# EAGLE library part ATSAMD21_WLCSP45 (library maholli)
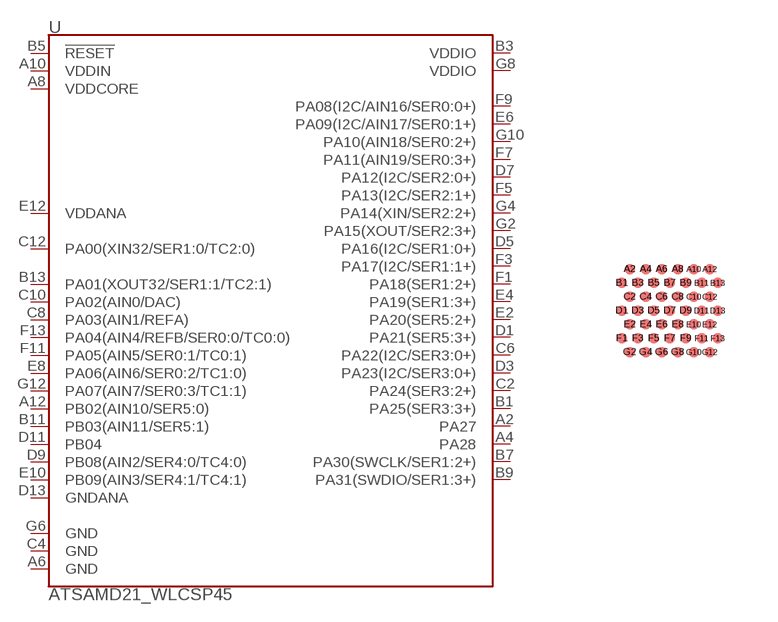
[diagram p18: symbol with the pads of 45-WLCSP; footprint 45-WLCSP]

Designator prefix U

## ATSAMD21_WLCSP45  [45-WLCSP]
A2  PA27
A4  PA28
A6  GND
A8  VDDCORE
A10  VDDIN
A12  PB02(AIN10/SER5:0)
B1  PA25(SER3:3+)
B3  VDDIO
B5  !RESET!
B7  PA30(SWCLK/SER1:2+)
B9  PA31(SWDIO/SER1:3+)
B11  PB03(AIN11/SER5:1)
B13  PA01(XOUT32/SER1:1/TC2:1)
C2  PA24(SER3:2+)
C4  GND
C6  PA22(I2C/SER3:0+)
C8  PA03(AIN1/REFA)
C10  PA02(AIN0/DAC)
C12  PA00(XIN32/SER1:0/TC2:0)
D1  PA21(SER5:3+)
D3  PA23(I2C/SER3:0+)
D5  PA16(I2C/SER1:0+)
D7  PA12(I2C/SER2:0+)
D9  PB08(AIN2/SER4:0/TC4:0)
D11  PB04
D13  GNDANA
E2  PA20(SER5:2+)
E4  PA19(SER1:3+)
E6  PA09(I2C/AIN17/SER0:1+)
E8  PA06(AIN6/SER0:2/TC1:0)
E10  PB09(AIN3/SER4:1/TC4:1)
E12  VDDANA
F1  PA18(SER1:2+)
F3  PA17(I2C/SER1:1+)
F5  PA13(I2C/SER2:1+)
F7  PA11(AIN19/SER0:3+)
F9  PA08(I2C/AIN16/SER0:0+)
F11  PA05(AIN5/SER0:1/TC0:1)
F13  PA04(AIN4/REFB/SER0:0/TC0:0)
G2  PA15(XOUT/SER2:3+)
G4  PA14(XIN/SER2:2+)
G6  GND
G8  VDDIO
G10  PA10(AIN18/SER0:2+)
G12  PA07(AIN7/SER0:3/TC1:1)

## Footprint 45-WLCSP (pad centres in mm)
smd 0.26 x 0.26: A2 -0.004,2.078; A4 0.396,2.078; A6 0.796,2.078; A8 1.196,2.078; A10 1.596,2.078; A12 1.996,2.078; B1 -0.204,1.732; B3 0.196,1.732; B5 0.596,1.732; B7 0.996,1.732; B9 1.396,1.732; B11 1.796,1.732; B13 2.196,1.732; C2 -0.004,1.386; C4 0.396,1.386; C6 0.796,1.386; C8 1.196,1.386; C10 1.596,1.386; C12 1.996,1.386; D1 -0.204,1.04; D3 0.196,1.04; D5 0.596,1.04; D7 0.996,1.04; D9 1.396,1.04; D11 1.796,1.04; D13 2.196,1.04; E2 -0.004,0.694; E4 0.396,0.694; E6 0.796,0.694; E8 1.196,0.694; E10 1.596,0.694; E12 1.996,0.694; F1 -0.204,0.348; F3 0.196,0.348; F5 0.596,0.348; F7 0.996,0.348; F9 1.396,0.348; F11 1.796,0.348; F13 2.196,0.348; G2 -0.004,0.002; G4 0.396,0.002; G6 0.796,0.002; G8 1.196,0.002; G10 1.596,0.002; G12 1.996,0.002